# Altium schematic symbol library Mechanical.SchLib: 15 symbols
Pins are listed as number, name and electrical type; pins without a type are passive.

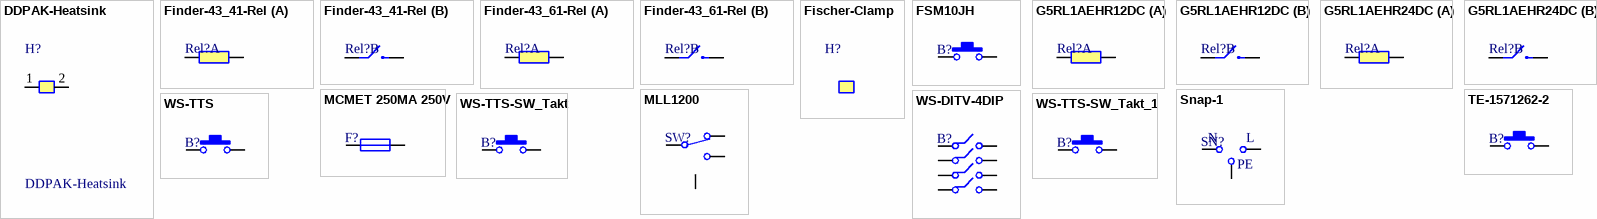
[diagram p0: symbols DDPAK-Heatsink to WS-TTS-SW_Takt_1]

## DDPAK-Heatsink
designator H?
DDPAK-Heatsink, SMD; Deliverer PartNr: 2413128; Manufacturer PartNr: 217-36CTRE6; Manufacturer: WAKEFIELD SOLUTIONS; Deliverer: Farnell; TDE-PN: M0002; Published: 19.05.2014; PackageDescription: DDPAK-Heatsink; Publisher: Sebastian Kulik
footprint DDPAK-Heatsink (DDPAK-Heatsink, SMD)
pins: 1, 2

## Finder-43_41-Rel
designator Rel?  (value not drawn)
Finder-43-Relay, 16A, 12V, 400mW; Deliverer PartNr: 1217374; Manufacturer PartNr: 43.61.9.012.2300; Manufacturer: Finder; Deliverer: Farnell; TDE-PN: M0004; Published: 05.06.2014; PackageDescription: Finder-43 series; Publisher: Sebastian Kulik
footprint Finder-43_41 series (Finder 43 series relay)
part A pins: 1, 2
part B pins: 3, 4

## Finder-43_61-Rel
designator Rel?  (value not drawn)
Finder-43-Relay, 16A, 12V, 400mW; Deliverer PartNr: 1947906; Manufacturer PartNr: 43.61.9.012.2300; Manufacturer: Finder; Deliverer: Farnell; TDE-PN: M0003; Published: 05.06.2014; PackageDescription: Finder-43 series; Publisher: Sebastian Kulik
footprint Finder-43 series (Finder 43 series relay)
part A pins: 1, 2
part B pins: 3, 4

## Fischer-Clamp
designator H?  (value not drawn)
Deliverer PartNr: 504-0592; Manufacturer PartNr: THFM1; Manufacturer: Fischer Elektronik; Deliverer: RS; TDE-PN: M0014; Published: 11.05.2016; Publisher: Sebastian Kulik; Price: 0.156/10

## FSM10JH
designator B?  (value not drawn)
Button, THT; Deliverer PartNr: 1555986; Manufacturer: AMP; Deliverer: Farnell; TDFE-PN: M0001; Published: 09.04.2014; Publisher: Sebastian Kulik; PackageDescription: FSM10JH; Manufacturer PartNr: FSM10JH; Value: FSM10JH
footprint FSM10JH
pins: 1, 2

## G5RL1AEHR12DC
designator Rel?  (value not drawn)
Omron_G5RL-1A-E-HR, 16A, 12V, 400mW; Deliverer PartNr: 2213807; Manufacturer: Omron; Deliverer: Farnell; TDE-PN: M0005; Published: 10.06.2014; PackageDescription: Omron-G5RL-HR; Publisher: Sebastian Kulik; Manufacturer PartNr: G5RL1AEHR12DC
footprint Omron-G5RL-HR (Omron-G5RL-HR series relay)
part A pins: 1, 2
part B pins: 3, 4

## G5RL1AEHR24DC
designator Rel?  (value not drawn)
Omron_G5RL-1A-E-HR, 16A, 24V, 400mW; Deliverer PartNr: 2213808; Manufacturer: Omron; Deliverer: Farnell; TDE-PN: M0007; Published: 25.05.2014; PackageDescription: Omron-G5RL-HR; Publisher: Sebastian Kulik; Manufacturer PartNr: G5RL1AEHR24DC
footprint Omron-G5RL-HR (Omron-G5RL-HR series relay)
part A pins: 1, 2
part B pins: 3, 4

## MCMET 250MA 250V
designator F?  (value not drawn)
Deliverer PartNr: 1566065; Manufacturer: Multicomp; Deliverer: Farnell; TDFE-PN: M0008; Published: 05.11.2014; Publisher: Sebastian Kulik; PackageDescription: TR-5; Manufacturer PartNr: MCMET 250MA 250V; Value: MCMET 250MA 250V
footprint TR5
pins: 1, 2

## MLL1200
designator SW?  (value not drawn)
Switch SMD, MLL1200; Deliverer PartNr: 506-MLL1200S; Manufacturer: TE-Connectivity; Manufacturer PartNr: MLL1200S; Deliverer: Mouser; TDFE-PN: M0011; Value: MLL1200S; Published: 09.04.2014; Publisher: Sebastian Kulik; PackageDescription: MLL1200
footprint MLL1200 (SMD switch)
pins: 1, 2, 3, 4, 5 hidden

## Snap-1
designator SN?  (value not drawn)
Snap for Strapubox SG-322B, THT; TDFE-PN: M0013; Published: 05.02.2015; Publisher: Sebastian Kulik; PackageDescription: SG-322-Snap; Deliverer: Strapubox; Deliverer PartNr: --; Manufacturer: Strapubox; Manufacturer PartNr: --; Value: Snap-1
footprint SG-322-Snap (Snap for Strapubox SG-322B, THT)
pins: 1 N, 2 L, 3 PE

## TE-1571262-2
designator B?  (value not drawn)
Button, SMD; Deliverer PartNr: 506-1571262-2; Manufacturer: TE-Connectivity; Deliverer: Mouser; TDFE-PN: M0012; Published: 24.11.2014; Publisher: Sebastian Kulik; PackageDescription: TE-1571262-2; Manufacturer PartNr: 1571262-2; Value: TE-1571262-2
footprint TE-1571262-2 (SMD switch)
pins: 1, 2

## WS-DITV-4DIP
designator B?  (value not drawn)
4 way DIP switch; Deliverer PartNr: 418127270904; Deliverer: WE; TDFE-PN: M0015; Published: 20.07.2016; Publisher: Sebastian Kulik; PackageDescription: DIP-8; Manufacturer: WE; Manufacturer PartNr: 418127270904; Value: WS-DITV-4DIP
footprint DIP-8-Ceramic-HT (DIP; 8 Leads; Row Spacing 7.62 mm; Pitch 2.54 mm)
pins: 1, 2, 3, 4, 5, 6, 7, 8

## WS-TTS
designator B?  (value not drawn)
Button, SMD; Deliverer PartNr: 430181038816; Deliverer: WE; TDFE-PN: M0006; Published: 09.04.2014; Publisher: Sebastian Kulik; PackageDescription: WS-TTS; Manufacturer: WE; Manufacturer PartNr: 430181038816; Value: WS-TTS
footprint WS-TTS (WE, button, SMD)
pins: 1, 2

## WS-TTS-SW_Takt
designator B?  (value not drawn)
Button, SMD; Deliverer PartNr: 431181015816; Deliverer: WE; TDFE-PN: M0009; Published: 09.04.2014; Publisher: Sebastian Kulik; PackageDescription: WS-TTS-SW_Takt; Manufacturer: WE; Manufacturer PartNr: 431181015816; Value: WS-TTS-SW_Takt
footprint WS-TTS-SW_Takt (431181015816)
pins: 1, 2

## WS-TTS-SW_Takt_1
designator B?  (value not drawn)
Button, SMD; Deliverer PartNr: 430483025816; Deliverer: WE; TDFE-PN: M0010; Published: 09.04.2014; Publisher: Sebastian Kulik; PackageDescription: WS-TTS-SW_Takt-1; Manufacturer: WE; Manufacturer PartNr: 430483025816; Value: WS-TTS-SW_Takt
footprint WS-TTS-SW_Takt-1 (430483025816)
pins: 1, 2